# Altium footprint library Jumper.PcbLib: 1 footprints
Each footprint in its own frame and in the unit in brackets; x right, y up, seen from the top. Pads: shape width x height; smd on the part's side, far side on the other; paste and mask are expansions set on the pad; w line width, h text height; cw(c..) or ccw(c..) is an arc to the next point about the centre after c.
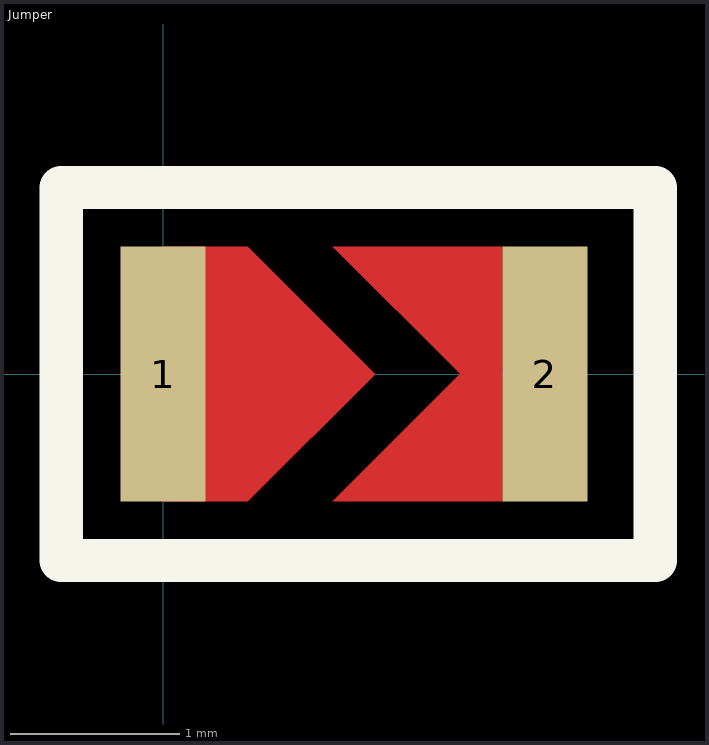
[diagram p0: the footprint, top view; thin cyan lines are the x and y axes]

## Jumper [mm]
pads (2):
  rect 0.5x1.5 smd: 1(0,0) 2(2.25,0)
Top Layer:
  pour cut-out: -0.2,0.5
  region: 0,0.75 0.5,0.75 1.25,0 0.5,-0.75 0,-0.75
  region: 1,0.75 1.75,0 1,-0.75 2,-0.75 2,0.75
Top Overlay:
  lines w0.254: -0.6,-1.1 2.9,-1.1 2.9,1.1 -0.6,1.1 -0.6,-1.1